# Altium schematic symbol library VNH3SP30-E.SchLib: 1 symbol
Pins are listed as number, name and electrical type; pins without a type are passive.

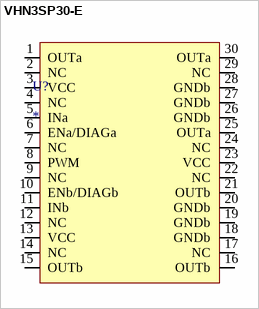
[diagram p0: symbol VHN3SP30-E]

## VHN3SP30-E
designator U?
pins: 1 OUTa, 2 NC, 3 VCC, 4 NC, 5 INa, 6 ENa/DIAGa, 7 NC, 8 PWM, 9 NC, 10 ENb/DIAGb, 11 INb, 12 NC, 13 VCC, 14 NC, 15 OUTb, 16 OUTb, 17 NC, 18 GNDb, 19 GNDb, 20 GNDb, 21 OUTb, 22 NC, 23 VCC, 24 NC, 25 OUTa, 26 GNDb, 27 GNDb, 28 GNDb, 29 NC, 30 OUTa